# Altium schematic symbol library other.SchLib: 10 symbols
Pins are listed as number, name and electrical type; pins without a type are passive.

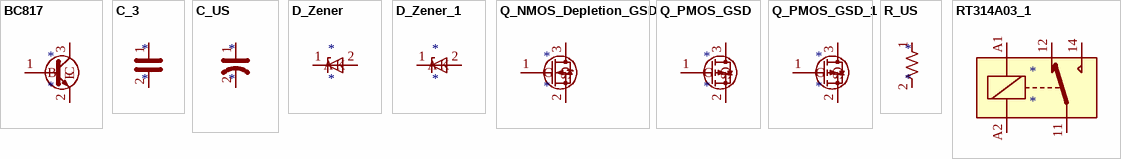
[diagram p0: symbols BC817 to RT314A03_1]

## BC817
designator *
pins: 1 B, 2 E, 3 C

## C_3
designator *
pins: 1, 2

## C_US
designator *
pins: 1, 2

## D_Zener
designator *
pins: 1 K, 2 A

## D_Zener_1
designator *
pins: 1 K, 2 A

## Q_NMOS_Depletion_GSD
designator *
pins: 1 G, 2 S, 3 D

## Q_PMOS_GSD
designator *
pins: 1 G, 2 S, 3 D

## Q_PMOS_GSD_1
designator *
pins: 1 G, 2 S, 3 D

## R_US
designator *
pins: 1, 2

## RT314A03_1
designator *
pins: 11, 12, 14, A1, A2